# Altium schematic symbol library OKL-T_6-W12N-C.SchLib: 1 symbol
Pins are listed as number, name and electrical type; pins without a type are passive.

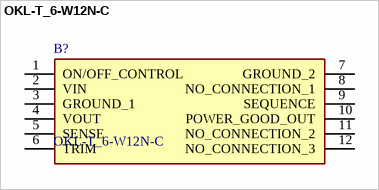
[diagram p0: symbol OKL-T_6-W12N-C]

## OKL-T_6-W12N-C
designator B?
Non-Isolated PoL Module DC DC Converter 1 Output 0.591 ~ 5.5V 6A 4.5V - 14V Input; Manufacturer_Name: Murata Electronics; Manufacturer_Part_Number: OKL-T/6-W12N-C; Geometry.Height: 7.2mm; Mouser Part Number: 580-OKL-T/6-W12N-C; Mouser Price/Stock: https://www.mouser.co.uk/ProductDetail/Murata-Power-Solutions/OKL-T-6-W12N-C?qs=b1CvEdhOXIYZVD7gV2R3gw%3D%3D; Arrow Part Number: OKL-T/6-W12N-C; Arrow Price/Stock: https://www.arrow.com/en/products/okl-t6-w12n-c/murata-power-solutions?region=nac; Datasheet Link: https://www.murata.com/products/productdata/8807038255134/okl-t6-w12.pdf?1583754815000
footprint OKLT6W12NC
pins: 1 ON/OFF_CONTROL, 2 VIN, 3 GROUND_1, 4 VOUT, 5 SENSE, 6 TRIM, 7 GROUND_2, 8 NO_CONNECTION_1, 9 SEQUENCE, 10 POWER_GOOD_OUT, 11 NO_CONNECTION_2, 12 NO_CONNECTION_3